# EAGLE library part LIS3L02AS04 (library UavComp)
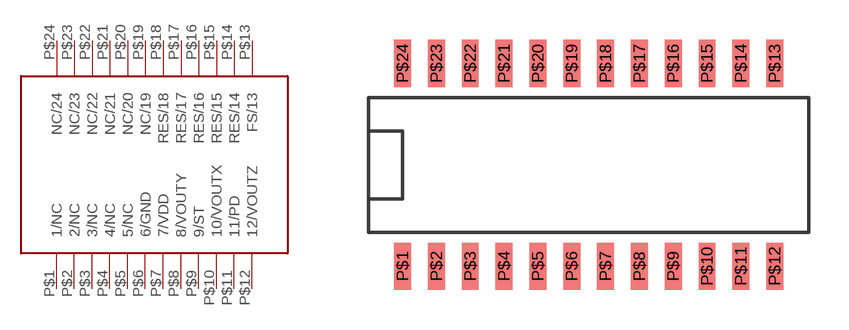
[diagram p2: symbol with the pads of LIS3L02AS4; footprint LIS3L02AS4]

Designator prefix IC

## LIS3L02AS04  [LIS3L02AS4]
P$1  1/NC
P$2  2/NC
P$3  3/NC
P$4  4/NC
P$5  5/NC
P$6  6/GND
P$7  7/VDD
P$8  8/VOUTY
P$9  9/ST
P$10  10/VOUTX
P$11  11/PD
P$12  12/VOUTZ
P$13  FS/13
P$14  RES/14
P$15  RES/15
P$16  RES/16
P$17  RES/17
P$18  RES/18
P$19  NC/19
P$20  NC/20
P$21  NC/21
P$22  NC/22
P$23  NC/23
P$24  NC/24

## Footprint LIS3L02AS4 (pad centres in mm)
smd 0.635 x 1.778: P$1 -16.51,-1.27; P$2 -15.24,-1.27; P$3 -13.97,-1.27; P$4 -12.7,-1.27; P$5 -11.43,-1.27; P$6 -10.16,-1.27; P$7 -8.89,-1.27; P$8 -7.62,-1.27; P$9 -6.35,-1.27; P$10 -5.08,-1.27; P$11 -3.81,-1.27; P$12 -2.54,-1.27; P$13 -2.54,6.35; P$14 -3.81,6.35; P$15 -5.08,6.35; P$16 -6.35,6.35; P$17 -7.62,6.35; P$18 -8.89,6.35; P$19 -10.16,6.35; P$20 -11.43,6.35; P$21 -12.7,6.35; P$22 -13.97,6.35; P$23 -15.24,6.35; P$24 -16.51,6.35